# EAGLE library part AT45DB642D-CN (library memory-atmel)
FLASH MEMORY 64-megabit, 2.7-volt, DataFlash®
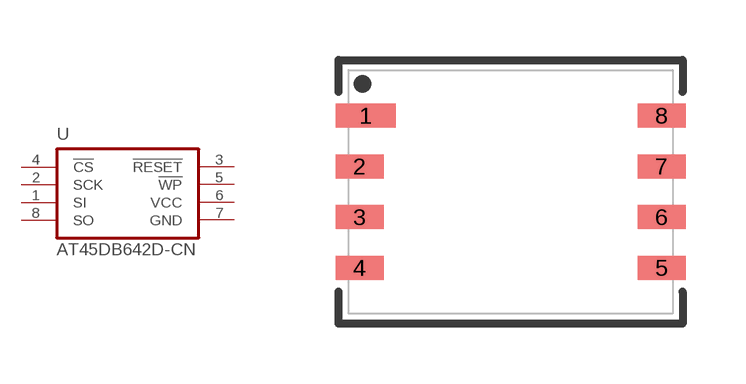
[diagram p11: symbol with the pads of CASON-8CN3; footprint CASON-8CN3]

Designator prefix U

## AT45DB642D-CN  [CASON-8CN3]
1  SI  in
2  SCK  in
3  !RESET!  in
4  !CS!  in
5  !WP!  in
6  VCC  pwr
7  GND  pwr
8  SO  out

## Footprint CASON-8CN3 (pad centres in mm)
8CN3-CASON body 6 x 8 x 1.0 mm, Lead Pitch 1.27 mm
smd 1.5 x 0.6: 1 -3.625,1.905
smd 1.2 x 0.6: 2 -3.775,0.635; 3 -3.775,-0.635; 4 -3.775,-1.905; 5 3.775,-1.905; 6 3.775,-0.635; 7 3.775,0.635; 8 3.775,1.905